# Altium footprint library user.PcbLib: 5 footprints
Each footprint in its own frame and in the unit in brackets; x right, y up, seen from the top. Pads: shape width x height; smd on the part's side, far side on the other; paste and mask are expansions set on the pad; w line width, h text height; cw(c..) or ccw(c..) is an arc to the next point about the centre after c.
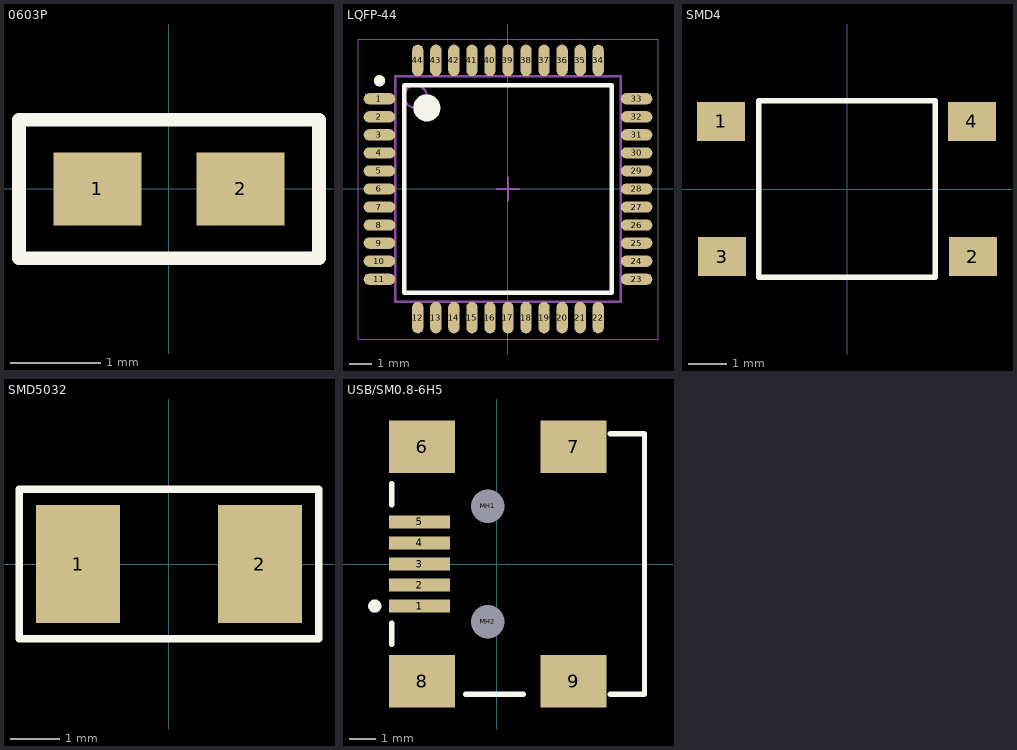
[diagram p0: the footprints below, top view; thin cyan lines are the x and y axes]

## 0603P [mm]
pads (2):
  rect 0.965x0.8 smd: 1(-0.787,0) 2(0.788,0)
Top Overlay:
  lines w0.152: -1.651,-0.762 1.651,-0.762 1.651,0.762 -1.651,0.762 -1.651,-0.762

## LQFP-44 [mm] "LQFP-44"
height 1.6
pads (44):
  oval 1.4x0.5 smd: 1(-5.7,4) 2(-5.7,3.2) 3(-5.7,2.4) 4(-5.7,1.6) 5(-5.7,0.8) 6(-5.7,0) 7(-5.7,-0.8) 8(-5.7,-1.6) 9(-5.7,-2.4) 10(-5.7,-3.2) 11(-5.7,-4) 23(5.7,-4) 24(5.7,-3.2) 25(5.7,-2.4) 26(5.7,-1.6) 27(5.7,-0.8) 28(5.7,0) 29(5.7,0.8) 30(5.7,1.6) 31(5.7,2.4) 32(5.7,3.2) 33(5.7,4)
  oval 0.5x1.4 smd: 12(-4,-5.7) 13(-3.2,-5.7) 14(-2.4,-5.7) 15(-1.6,-5.7) 16(-0.8,-5.7) 17(0,-5.7) 18(0.8,-5.7) 19(1.6,-5.7) 20(2.4,-5.7) 21(3.2,-5.7) 22(4,-5.7) 34(4,5.7) 35(3.2,5.7) 36(2.4,5.7) 37(1.6,5.7) 38(0.8,5.7) 39(0,5.7) 40(-0.8,5.7) 41(-1.6,5.7) 42(-2.4,5.7) 43(-3.2,5.7) 44(-4,5.7)
Top Overlay:
  circle w0.6: c-3.6,3.6 r0.3
  circle w0.25: c-5.7,4.8 r0.125
  lines w0.2: -4.6,-4.6 4.6,-4.6 4.6,4.6 -4.6,4.6 -4.6,-4.6
Assembly Top:
  circle w0.1: c-4.1,4.1 r0.5
  lines w0.1: -5,-5 5,-5 5,5 -5,5 -5,-5
Courtyard Top:
  lines w0.05: -6.65,-6.65 6.65,-6.65 6.65,6.65 -6.65,6.65 -6.65,-6.65
  lines w0.1: -0.5,0 0.5,0 ; 0,-0.5 0,0.5
3D body "STC89C52.step": height 1.6, standoff 0, extent -6,-6 6,6

## SMD4 [mm]
pads (4):
  rect 1.25x1 smd: 1(-3.261,1.75) 2(3.261,-1.75) 3(-3.238,-1.75) 4(3.238,1.75)
Top Overlay:
  lines w0.152: -2.286,-2.286 -2.286,2.286 2.286,2.286 2.286,-2.286 -2.286,-2.286

## SMD5032 [mm]
pads (2):
  rect 1.7x2.4 smd: 1(-1.85,0) 2(1.85,0)
Top Overlay:
  lines w0.152: -3.048,-1.524 3.048,-1.524 3.048,1.524 -3.048,1.524 -3.048,-1.524

## USB/SM0.8-6H5 [mm]
pads (11):
  rect 2.3x0.5 smd: 1(-2.927,-1.6) 2(-2.927,-0.8) 3(-2.927,0) 4(-2.927,0.8) 5(-2.927,1.6)
  rect 2.5x2 smd: 6(-2.827,4.45) 7(2.927,4.45) 8(-2.827,-4.45) 9(2.927,-4.45)
  round 0.6 hole 1.27 unplated: MH1(-0.327,2.2) MH2(-0.327,-2.2)
Top Overlay:
  circle w0.25: c-4.627,-1.6 r0.125
  lines w0.2: -3.977,-3.05 -3.977,-2.25 ; -3.977,2.25 -3.977,3.05 ; -1.177,-4.95 1.023,-4.95 ; 4.323,-4.95 5.623,-4.95 5.623,4.95 4.323,4.95